# Altium footprint library PCB - CONNECTOR - JST - JST BM05B-SURS-TF.PCBLIB: 1 footprints
Each footprint in its own frame and in the unit in brackets; x right, y up, seen from the top. Pads: shape width x height; smd on the part's side, far side on the other; paste and mask are expansions set on the pad; w line width, h text height; cw(c..) or ccw(c..) is an arc to the next point about the centre after c.
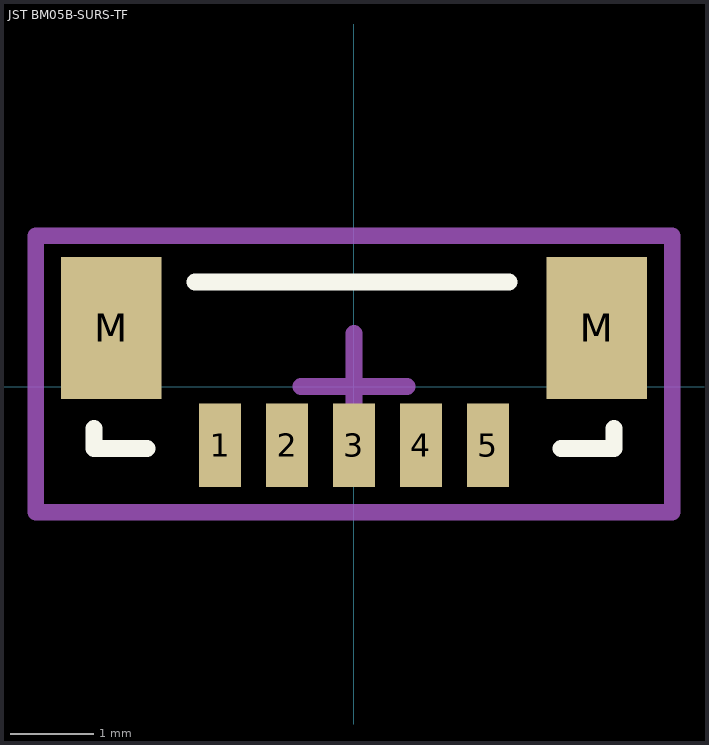
[diagram p0: the footprint, top view; thin cyan lines are the x and y axes]

## JST BM05B-SURS-TF [mm] "1.0mm pitch/Disconnectable Crimp style connector"
height 3.95
pads (7):
  rect 0.5x1 smd: 1(-1.6,-0.7) 2(-0.8,-0.7) 3(0,-0.7) 4(0.8,-0.7) 5(1.6,-0.7)
  rect 1.2x1.7 smd: M(-2.9,0.7) M(2.9,0.7)
Top Overlay:
  lines w0.2: -3.105,-0.5 -3.105,-0.741 -2.47,-0.741 ; -1.9,1.25 1.85,1.25 ; 2.47,-0.741 3.105,-0.741 3.105,-0.5
Mechanical 15:
  lines w0.2: -0.635,0 0.635,0 ; 0,-0.635 0,0.635 ; -3.8,-1.5 -3.8,1.8 3.8,1.8 3.8,-1.5 -3.8,-1.5
3D body "JST BM05B-SURS-TF.step": height 2.75, standoff 0, extent -3.1,-1.05 3.1,1.2